# EAGLE library part TLV320AIC3253 (library TLV320AIC32XX)
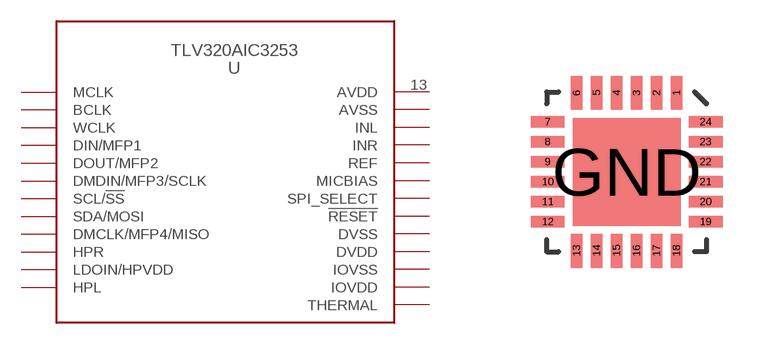
[diagram p0: symbol with the pads of TLV320AIC3253; footprint TLV320AIC3253]

Designator prefix U

## TLV320AIC3253  [TLV320AIC3253]
1  MCLK
2  BCLK
3  WCLK
4  DIN/MFP1
5  DOUT/MFP2
6  DMDIN/MFP3/SCLK
7  SCL/!SS
8  SDA/MOSI
9  DMCLK/MFP4/MISO
10  HPR
11  LDOIN/HPVDD
12  HPL
13  AVDD
14  AVSS
15  INL
16  INR
17  REF
18  MICBIAS
19  SPI_SELECT
20  !RESET
21  DVSS
22  DVDD
23  IOVSS
24  IOVDD
GND  THERMAL

## Footprint TLV320AIC3253 (pad centres in mm)
smd 0.28 x 0.85: 1 1.25,1.975; 2 0.75,1.975; 3 0.25,1.975; 4 -0.25,1.975; 5 -0.75,1.975; 6 -1.25,1.975; 13 -1.25,-1.975; 14 -0.75,-1.975; 15 -0.25,-1.975; 16 0.25,-1.975; 17 0.75,-1.975; 18 1.25,-1.975
smd 0.85 x 0.28: 7 -1.975,1.25; 8 -1.975,0.75; 9 -1.975,0.25; 10 -1.975,-0.25; 11 -1.975,-0.75; 12 -1.975,-1.25; 19 1.975,-1.25; 20 1.975,-0.75; 21 1.975,-0.25; 22 1.975,0.25; 23 1.975,0.75; 24 1.975,1.25
smd 2.7 x 2.7: GND 0,0